# EAGLE library part EZG-?-310 (library con-lemo)
LEMO Connector Source: http://www.lemo.com/pdfs/catalog/ROW/German/unipole_multipole.pdf
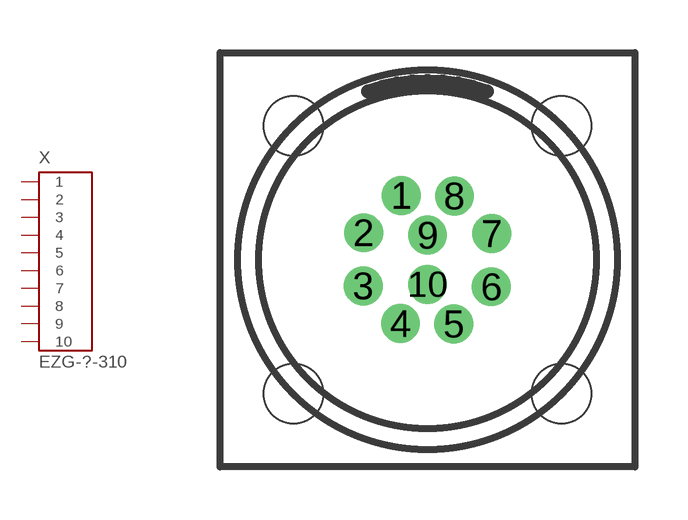
[diagram p2: symbol with the pads of EZG-1B-1K-310; footprint EZG-1B-1K-310]

Designator prefix X

## EZG-1B-310 (OC_FARNELL: unknown; OC_NEWARK: unknown)  [EZG-1B-1K-310]
1  1  pas
2  2  pas
3  3  pas
4  4  pas
5  5  pas
6  6  pas
7  7  pas
8  8  pas
9  9  pas
10  10  pas

## EZG-1K-310 (OC_FARNELL: unknown; OC_NEWARK: unknown)  [EZG-1B-1K-310]
Pads as for EZG-1B-1K-310

## Footprint EZG-1B-1K-310 (pad centres in mm)
LEMO Connector Source: http://www.lemo.com/pdfs/catalog/ROW/German/unipole_multipole.pdf
drill 0.6 pad 1: 1 -0.743,1.83; 2 -1.819,0.768; 3 -1.83,-0.743; 4 -0.768,-1.819; 5 0.743,-1.83; 6 1.819,-0.768; 7 1.83,0.743; 8 0.768,1.819; 9 0,0.7; 10 0,-0.7
hole 1.7 at -3.81,3.81
hole 1.7 at 3.81,3.81
hole 1.7 at 3.81,-3.81
hole 1.7 at -3.81,-3.81